# Altium integrated library Connectors - RJ45.IntLib: 3 symbols
Pins are listed as number, name and electrical type; pins without a type are passive.

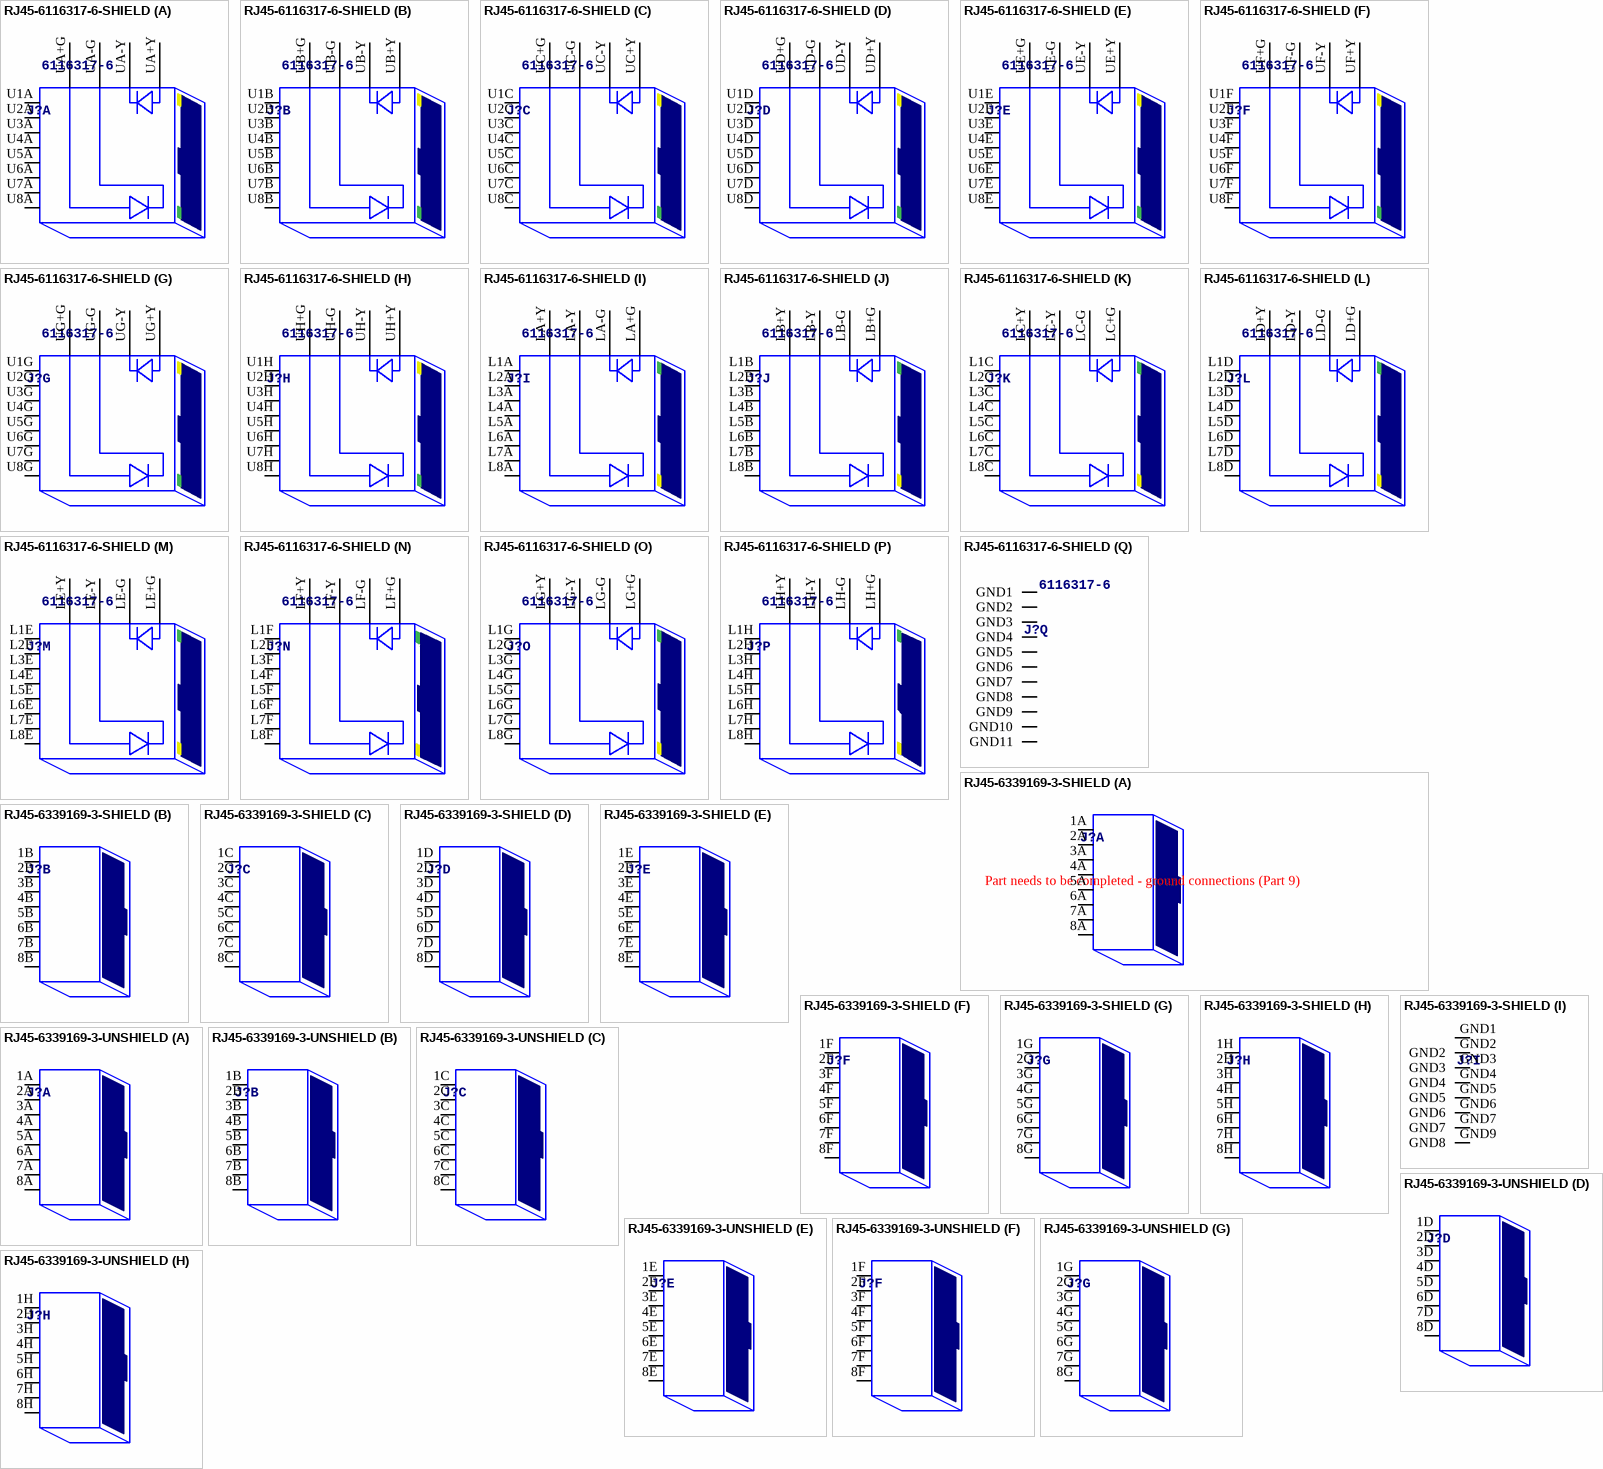
[diagram p0: symbols RJ45-6116317-6-SHIELD to RJ45-6339169-3-UNSHIELD]

## RJ45-6116317-6-SHIELD
designator J?, comment 6116317-6
RJ45, 2x8 configuration, Shielded, RA; Manufacturer: TE Connectivity; Positions: 16; Rows: 2; Magnetics: None; LED Colour: green - yellow; Shielding: Shielded, EMI Finger; Part Number: 6116317-6; Orientation: Right Angle; Supplier 1: Digi-Key; Supplier Part Number 1: A97710-ND; Supplier 2: Mouser; Supplier Part Number 2: 571-6116317-6
footprint RJ45-2X8-SHIELDED
part A pins: U1A 1, U2A 2, U3A 3, U4A 4, U5A 5, U6A 6, U7A 7, U8A 8, UA+G, UA+Y, UA-G, UA-Y
part B pins: U1B 1, U2B 2, U3B 3, U4B 4, U5B 5, U6B 6, U7B 7, U8B 8, UB+G, UB+Y, UB-G, UB-Y
part C pins: U1C 1, U2C 2, U3C 3, U4C 4, U5C 5, U6C 6, U7C 7, U8C 8, UC+G, UC+Y, UC-G, UC-Y
part D pins: U1D 1, U2D 2, U3D 3, U4D 4, U5D 5, U6D 6, U7D 7, U8D 8, UD+G, UD+Y, UD-G, UD-Y
part E pins: U1E 1, U2E 2, U3E 3, U4E 4, U5E 5, U6E 6, U7E 7, U8E 8, UE+G, UE+Y, UE-G, UE-Y
part F pins: U1F 1, U2F 2, U3F 3, U4F 4, U5F 5, U6F 6, U7F 7, U8F 8, UF+G, UF+Y, UF-G, UF-Y
part G pins: U1G 1, U2G 2, U3G 3, U4G 4, U5G 5, U6G 6, U7G 7, U8G 8, UG+G, UG+Y, UG-G, UG-Y
part H pins: U1H 1, U2H 2, U3H 3, U4H 4, U5H 5, U6H 6, U7H 7, U8H 8, UH+G, UH+Y, UH-G, UH-Y
part I pins: L1A 1, L2A 2, L3A 3, L4A 4, L5A 5, L6A 6, L7A 7, L8A 8, LA+G, LA+Y, LA-G, LA-Y
part J pins: L1B 1, L2B 2, L3B 3, L4B 4, L5B 5, L6B 6, L7B 7, L8B 8, LB+G, LB+Y, LB-G, LB-Y
part K pins: L1C 1, L2C 2, L3C 3, L4C 4, L5C 5, L6C 6, L7C 7, L8C 8, LC+G, LC+Y, LC-G, LC-Y
part L pins: L1D 1, L2D 2, L3D 3, L4D 4, L5D 5, L6D 6, L7D 7, L8D 8, LD+G, LD+Y, LD-G, LD-Y
part M pins: L1E 1, L2E 2, L3E 3, L4E 4, L5E 5, L6E 6, L7E 7, L8E 8, LE+G, LE+Y, LE-G, LE-Y
part N pins: L1F 1, L2F 2, L3F 3, L4F 4, L5F 5, L6F 6, L7F 7, L8F 8, LF+G, LF+Y, LF-G, LF-Y
part O pins: L1G 1, L2G 2, L3G 3, L4G 4, L5G 5, L6G 6, L7G 7, L8G 8, LG+G, LG+Y, LG-G, LG-Y
part P pins: L1H 1, L2H 2, L3H 3, L4H 4, L5H 5, L6H 6, L7H 7, L8H 8, LH+G, LH+Y, LH-G, LH-Y
part Q pins: GND1 (power), GND2 (power), GND3 (power), GND4 (power), GND5 (power), GND6 (power), GND7 (power), GND8 (power), GND9 (power), GND10, GND11

## RJ45-6339169-3-SHIELD
designator J?, comment 6339169-3  (value not drawn)
RJ45, 1x8 configuration, Shielded, Non-inverted jack face; Part Number: 5406491-1; Manufacturer: TE Connectivity; Positions: 8; Rows: 1; Magnetics: None; Shielding: Shielded, EMI Finger; Orientation: Right Angle; LED Colour: N/A; Supplier 1: Mouser; Supplier Part Number 1: 571-6339169-3; Supplier 2: Digi-Key; Supplier Part Number 2: A97712-ND; Supplier 3: Allied; Supplier Part Number 3: 70084575; Supplier 4: Newark; Supplier Part Number 4: 42K7644
footprint RJ45-1x8-Shielded (RJ45 jack assembly, 1x8 port, right angle, shielded, Non-inverted jack face)
3D model RJ45-1x8-SHLD (PCB3D Model)
part A pins: 1A 1, 2A 2, 3A 3, 4A 4, 5A 5, 6A 6, 7A 7, 8A 8
part B pins: 1B 1, 2B 2, 3B 3, 4B 4, 5B 5, 6B 6, 7B 7, 8B 8
part C pins: 1C 1, 2C 2, 3C 3, 4C 4, 5C 5, 6C 6, 7C 7, 8C 8
part D pins: 1D 1, 2D 2, 3D 3, 4D 4, 5D 5, 6D 6, 7D 7, 8D 8
part E pins: 1E 1, 2E 2, 3E 3, 4E 4, 5E 5, 6E 6, 7E 7, 8E 8
part F pins: 1F 1, 2F 2, 3F 3, 4F 4, 5F 5, 6F 6, 7F 7, 8F 8
part G pins: 1G 1, 2G 2, 3G 3, 4G 4, 5G 5, 6G 6, 7G 7, 8G 8
part H pins: 1H 1, 2H 2, 3H 3, 4H 4, 5H 5, 6H 6, 7H 7, 8H 8
part I pins: GND1 (power), GND2 (power), GND3 (power), GND4 (power), GND5 (power), GND6 (power), GND7 (power), GND9 GND8 (power)
part A text: Part needs to be completed - ground connections (Part 9)

## RJ45-6339169-3-UNSHIELD
designator J?, comment 6339169-3  (value not drawn)
RJ45, 1x8 configuration, Shielded, Non-inverted jack face; Part Number: 5406491-1; Manufacturer: TE Connectivity; Positions: 8; Rows: 1; Magnetics: None; Shielding: No Shield; Orientation: Right Angle; LED Colour: N/A; Supplier 1: Mouser; Supplier Part Number 1: 571-6339169-3; Supplier 2: Digi-Key; Supplier Part Number 2: A97712-ND; Supplier 3: Allied; Supplier Part Number 3: 70084575; Supplier 4: Newark; Supplier Part Number 4: 42K7644
footprint RJ45-1x8-UNSHIELDED (RJ45 jack assembly, 1x8 port, right angle, unshielded, Non-inverted jack face)
3D model RJ45-1x8-SHLD (PCB3D Model)
part A pins: 1A 1, 2A 2, 3A 3, 4A 4, 5A 5, 6A 6, 7A 7, 8A 8
part B pins: 1B 1, 2B 2, 3B 3, 4B 4, 5B 5, 6B 6, 7B 7, 8B 8
part C pins: 1C 1, 2C 2, 3C 3, 4C 4, 5C 5, 6C 6, 7C 7, 8C 8
part D pins: 1D 1, 2D 2, 3D 3, 4D 4, 5D 5, 6D 6, 7D 7, 8D 8
part E pins: 1E 1, 2E 2, 3E 3, 4E 4, 5E 5, 6E 6, 7E 7, 8E 8
part F pins: 1F 1, 2F 2, 3F 3, 4F 4, 5F 5, 6F 6, 7F 7, 8F 8
part G pins: 1G 1, 2G 2, 3G 3, 4G 4, 5G 5, 6G 6, 7G 7, 8G 8
part H pins: 1H 1, 2H 2, 3H 3, 4H 4, 5H 5, 6H 6, 7H 7, 8H 8